# EAGLE library part SIMM80BRD (library C2500)
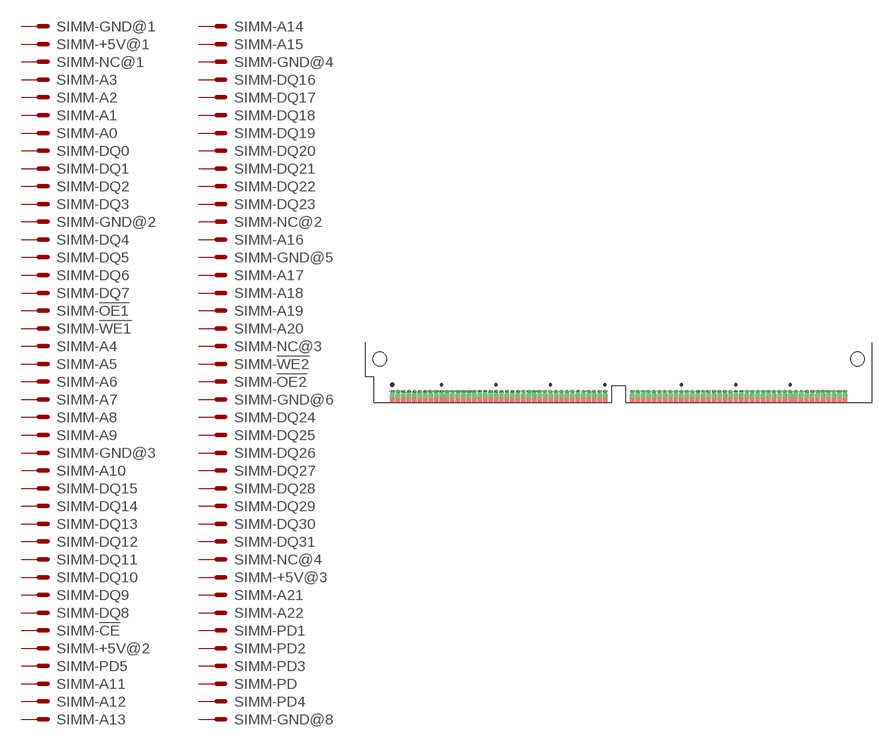
[diagram p0: symbol with the pads of SIMM80BRD; footprint SIMM80BRD]

Designator prefix SIMM; gates -GND@1=MS -+5V@1=MS -NC@1=MS -A3=MS -A2=MS -A1=MS -A0=MS -DQ0=MS -DQ1=MS -DQ2=MS -DQ3=MS -GND@2=MS -DQ4=MS -DQ5=MS -DQ6=MS -DQ7=MS -!OE1!=MS -!WE1!=MS -A4=MS -A5=MS -A6=MS -A7=MS -A8=MS -A9=MS -A10=MS -DQ15=MS -DQ14=MS -DQ13=MS -DQ12=MS -DQ11=MS -DQ10=MS -DQ9=MS -DQ8=MS -!CE!=MS -+5V@2=MS -PD5=MS -A11=MS -A12=MS -A13=MS -GND@3=MS -A14=MS -A15=MS -GND@4=MS -DQ16=MS -DQ17=MS -DQ18=MS -DQ19=MS -DQ20=MS -DQ21=MS -DQ22=MS -DQ23=MS -NC@2=MS -A16=MS -GND@5=MS -A17=MS -A18=MS -A19=MS -A20=MS -NC@3=MS -!WE2!=MS -!OE2!=MS -GND@6=MS -DQ24=MS -DQ25=MS -DQ26=MS -DQ27=MS -DQ28=MS -DQ29=MS -DQ30=MS -DQ31=MS -NC@4=MS -+5V@3=MS -A21=MS -A22=MS -PD1=MS -PD2=MS -PD3=MS -PD=MS -PD4=MS -GND@8=MS

## SIMM80BRD  [SIMM80BRD]
!CE!  -!CE!:MS  pas
!OE1!  -!OE1!:MS  pas
!OE2!  -!OE2!:MS  pas
!WE1!  -!WE1!:MS  pas
!WE2!  -!WE2!:MS  pas
+5V  -+5V@1:MS  pas
+5V_36  -+5V@2:MS  pas
+5V_72  -+5V@3:MS  pas
A0  -A0:MS  pas
A1  -A1:MS  pas
A2  -A2:MS  pas
A3  -A3:MS  pas
A4  -A4:MS  pas
A5  -A5:MS  pas
A6  -A6:MS  pas
A7  -A7:MS  pas
A8  -A8:MS  pas
A9  -A9:MS  pas
A10  -A10:MS  pas
A11  -A11:MS  pas
A12  -A12:MS  pas
A13  -A13:MS  pas
A14  -A14:MS  pas
A15  -A15:MS  pas
A16  -A16:MS  pas
A17  -A17:MS  pas
A18  -A18:MS  pas
A19  -A19:MS  pas
A20  -A20:MS  pas
A21  -A21:MS  pas
A22  -A22:MS  pas
DQ0  -DQ0:MS  pas
DQ1  -DQ1:MS  pas
DQ2  -DQ2:MS  pas
DQ3  -DQ3:MS  pas
DQ4  -DQ4:MS  pas
DQ5  -DQ5:MS  pas
DQ6  -DQ6:MS  pas
DQ7  -DQ7:MS  pas
DQ8  -DQ8:MS  pas
DQ9  -DQ9:MS  pas
DQ10  -DQ10:MS  pas
DQ11  -DQ11:MS  pas
DQ12  -DQ12:MS  pas
DQ13  -DQ13:MS  pas
DQ14  -DQ14:MS  pas
DQ15  -DQ15:MS  pas
DQ16  -DQ16:MS  pas
DQ17  -DQ17:MS  pas
DQ18  -DQ18:MS  pas
DQ19  -DQ19:MS  pas
DQ20  -DQ20:MS  pas
DQ21  -DQ21:MS  pas
DQ22  -DQ22:MS  pas
DQ23  -DQ23:MS  pas
DQ24  -DQ24:MS  pas
DQ25  -DQ25:MS  pas
DQ26  -DQ26:MS  pas
DQ27  -DQ27:MS  pas
DQ28  -DQ28:MS  pas
DQ29  -DQ29:MS  pas
DQ30  -DQ30:MS  pas
DQ31  -DQ31:MS  pas
GND  -GND@1:MS  pas
GND_12  -GND@2:MS  pas
GND_25  -GND@3:MS  pas
GND_43  -GND@4:MS  pas
GND_54  -GND@5:MS  pas
GND_62  -GND@6:MS  pas
GND_78  -PD:MS  pas
GND_80  -GND@8:MS  pas
NC  -NC@1:MS  pas
NC_52  -NC@2:MS  pas
NC_59  -NC@3:MS  pas
NC_71  -NC@4:MS  pas
PD1  -PD1:MS  pas
PD2  -PD2:MS  pas
PD3  -PD3:MS  pas
PD4  -PD4:MS  pas
PD5  -PD5:MS  pas

## Footprint SIMM80BRD (pad centres in mm)
drill 0.4 pad 1.041 offset: !CE! 49.53,2.54; !OE1! 26.67,2.54; !OE2! 87.63,2.54; !WE1! 27.94,2.54; !WE2! 86.36,2.54; +5V 7.62,2.54; +5V_36 50.8,2.54; +5V_72 101.6,2.54; A0 13.97,2.54; A1 12.7,2.54; A2 11.43,2.54; A3 10.16,2.54; A4 29.21,2.54; A5 30.48,2.54; A6 31.75,2.54; A7 33.02,2.54; A8 34.29,2.54; A9 35.56,2.54; A10 38.1,2.54; A11 53.34,2.54; A12 54.61,2.54; A13 55.88,2.54; A14 62.23,2.54; A15 63.5,2.54; A16 77.47,2.54; A17 80.01,2.54; A18 81.28,2.54; A19 82.55,2.54; A20 83.82,2.54; A21 102.87,2.54; A22 104.14,2.54; DQ0 25.4,2.54; DQ1 24.13,2.54; DQ2 22.86,2.54; DQ3 21.59,2.54; DQ4 19.05,2.54; DQ5 17.78,2.54; DQ6 16.51,2.54; DQ7 15.24,2.54; DQ8 39.37,2.54; DQ9 40.64,2.54; DQ10 41.91,2.54; DQ11 43.18,2.54; DQ12 44.45,2.54; DQ13 45.72,2.54; DQ14 46.99,2.54; DQ15 48.26,2.54; DQ16 74.93,2.54; DQ17 73.66,2.54; DQ18 72.39,2.54; DQ19 71.12,2.54; DQ20 69.85,2.54; DQ21 68.58,2.54; DQ22 67.31,2.54; DQ23 66.04,2.54; DQ24 99.06,2.54; DQ25 97.79,2.54; DQ26 96.52,2.54; DQ27 95.25,2.54; DQ28 93.98,2.54; DQ29 92.71,2.54; DQ30 91.44,2.54; DQ31 90.17,2.54; GND 6.35,2.54; GND_12 20.32,2.54; GND_25 36.83,2.54; GND_43 64.77,2.54; GND_54 78.74,2.54; GND_62 88.9,2.54; GND_78 109.22,2.54; GND_80 111.76,2.54; NC 8.89,2.54; NC_52 76.2,2.54; NC_59 85.09,2.54; NC_71 100.33,2.54; PD1 105.41,2.54; PD2 106.68,2.54; PD3 107.95,2.54; PD4 110.49,2.54; PD5 52.07,2.54
hole 3.2 at 3.38,10.16
hole 3.2 at 114.73,10.16